# Altium footprint library CON FTSH-110-x-x-DV.PcbLib: 1 footprints
Each footprint in its own frame and in the unit in brackets; x right, y up, seen from the top. Pads: shape width x height; smd on the part's side, far side on the other; paste and mask are expansions set on the pad; w line width, h text height; cw(c..) or ccw(c..) is an arc to the next point about the centre after c.
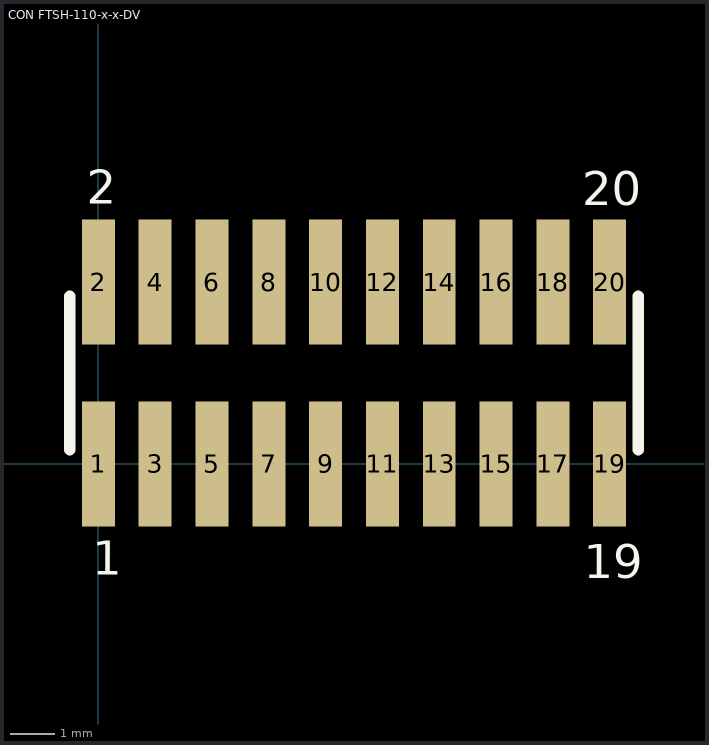
[diagram p0: the footprint, top view; thin cyan lines are the x and y axes]

## CON FTSH-110-x-x-DV [mil] "Samtec FTSH-110 Surface Mount Connector"
height 219
pads (20):
  rect 29x110 smd: 1(0,0) 2(0,160) 3(50,0) 4(50,160) 5(100,0) 6(100,160) 7(150,0) 8(150,160) 9(200,0) 10(200,160) 11(250,0) 12(250,160) 13(300,0) 14(300,160) 15(350,0) 16(350,160) 17(400,0) 18(400,160) 19(450,0) 20(450,160)
TopOverlay:
  lines w10: -25,12.5 -25,147.5 ; 475,12.5 475,147.5
  text "1" at -5.27,-97.55 h30
  text "19" at 427.03,-100.62 h30
  text "20" at 426.01,227.7 h30
  text "2" at -10.37,228.73 h30
3D body: height 241.6, standoff 0.6, extent -24.99,-34.99 475.01,195.01